# Altium footprint library wulpus_hv.PcbLib: 27 footprints (part 1 of 2)
Each footprint in its own frame and in the unit in brackets; x right, y up, seen from the top. Pads: shape width x height; smd on the part's side, far side on the other; paste and mask are expansions set on the pad; w line width, h text height; cw(c..) or ccw(c..) is an arc to the next point about the centre after c.
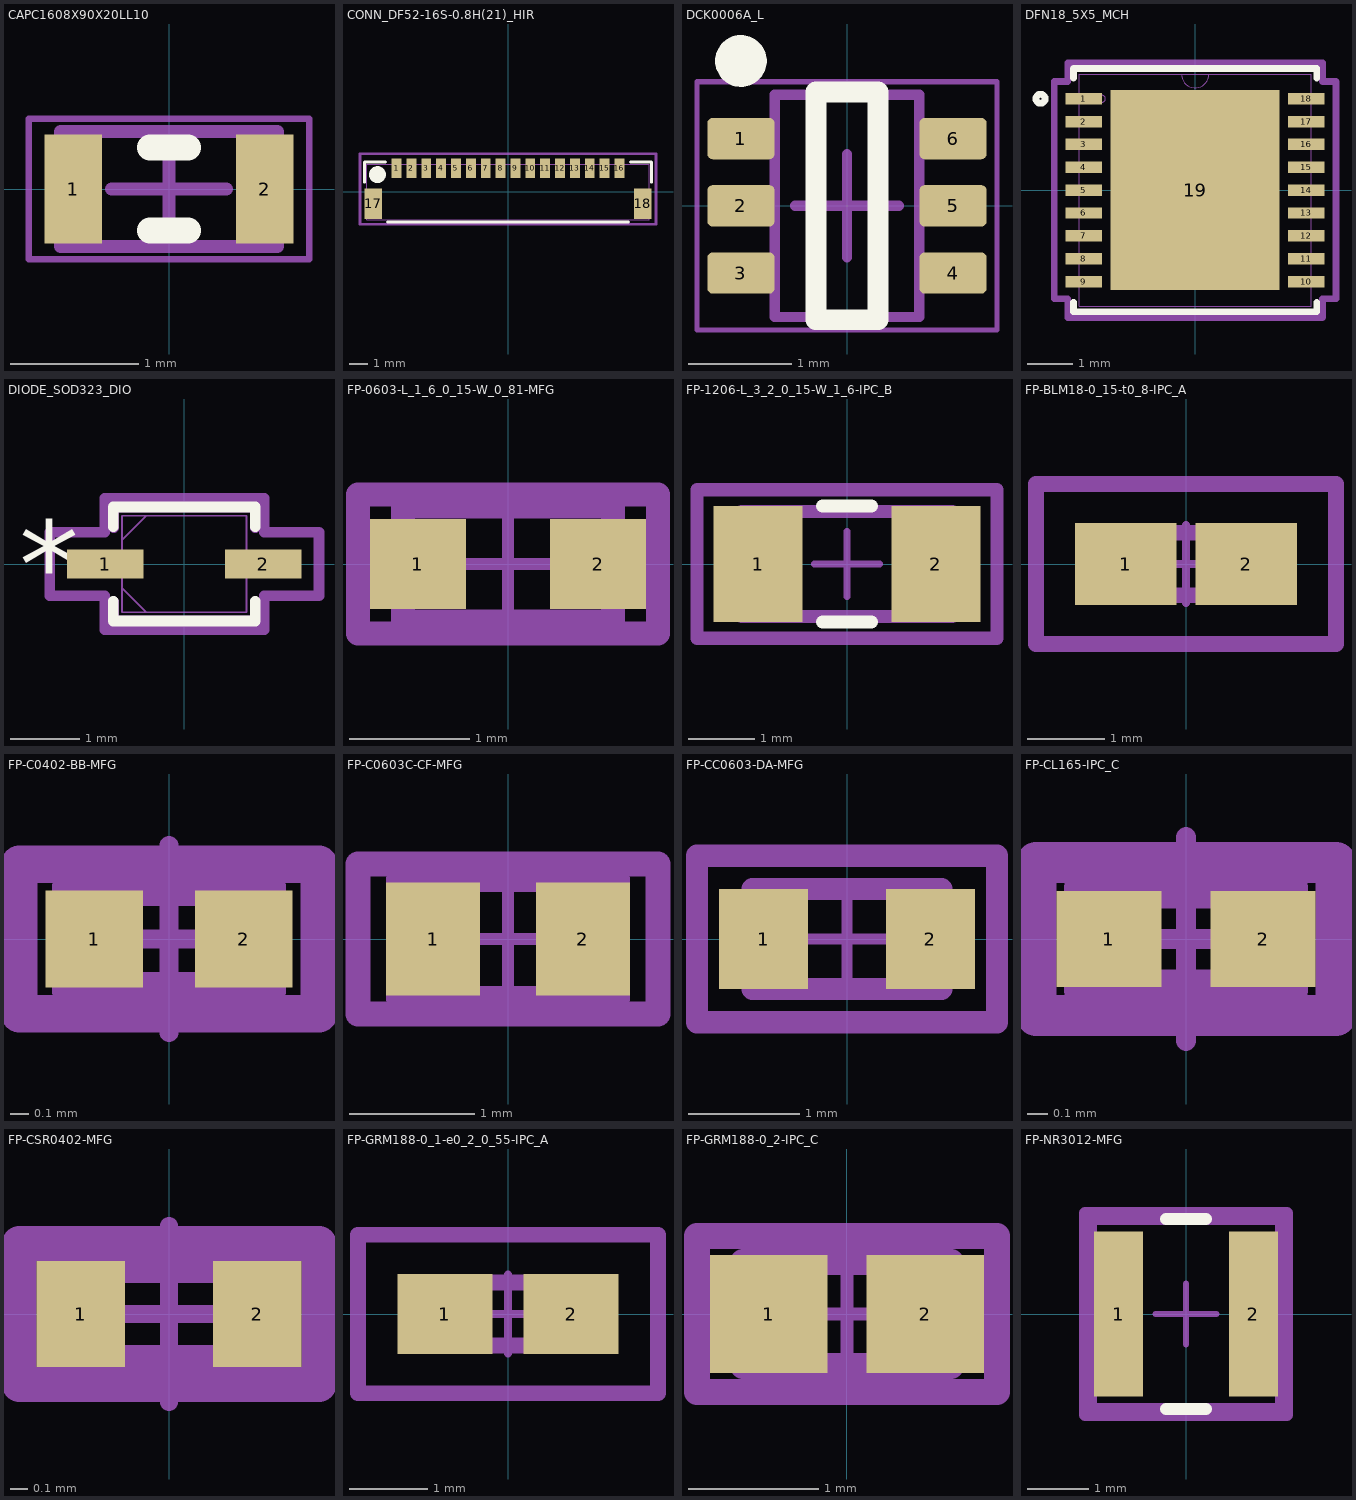
[diagram p0: the footprints below, top view; thin cyan lines are the x and y axes]

## CAPC1608X90X20LL10 [mm]
pads (2):
  rect 0.45x0.85 smd: 1(-0.75,0) 2(0.75,0)
Top Overlay:
  lines w0.2: -0.15,-0.325 0.15,-0.325 ; -0.15,0.325 0.15,0.325
Top 3D Body:
  lines w0.1: -0.85,-0.45 0.85,-0.45 0.85,0.45 -0.85,0.45 -0.85,-0.45
Top Courtyard:
  lines w0.05: -1.1,-0.55 1.1,-0.55 1.1,0.55 -1.1,0.55 -1.1,-0.55
  lines w0.1: -0.45,0 0.45,0 ; 0,-0.45 0,0.45
3D body: height 0.9, standoff 0, extent 0.65,-0.45 0.85,0.45
3D body: height 0.9, standoff 0, extent -0.85,-0.45 -0.65,0.45
3D body: height 0.9, standoff 0, extent -0.65,-0.45 0.65,0.45

## CONN_DF52-16S-0.8H(21)_HIR [mil]
pads (18):
  rect 21x41 smd paste+0 mask+0: 1(-236.22,50.63) 2(-204.72,50.63) 3(-173.23,50.63) 4(-141.73,50.63) 5(-110.24,50.63) 6(-78.74,50.63) 7(-47.24,50.63) 8(-15.75,50.63) 9(15.75,50.63) 10(47.24,50.63) 11(78.74,50.63) 12(110.24,50.63) 13(141.73,50.63) 14(173.23,50.63) 15(204.72,50.63) 16(236.22,50.63)
  rect 37x65 smd: 17(-285.43,-24.96) 18(285.43,-24.96)
Top Overlay:
  circle w20: c-276.57,36.85 r7.87
  lines w6: -304,20.64 -304,63.5 -259.82,63.5 ; -255.31,-63.5 255.31,-63.5 ; 259.82,63.5 304,63.5 304,20.64
Top 3D Body:
  lines w1: -299,-58.5 299,-58.5 299,58.5 -299,58.5 -299,-58.5
Top Courtyard:
  lines w6: -313.93,-68.5 -313.93,81.13 313.93,81.13 313.93,-68.5 -313.93,-68.5
3D body "DF52-16S-0.8H-21---3DModel-STEP-1.STEP": height 69.4, standoff 0.5, extent -295.28,-55.12 295.28,53.94
3D body: height 10, standoff 0, extent 0,0 10,10

## DCK0006A_L [mm]
pads (6):
  rrect25% 0.65x0.4 smd: 1(-1.025,0.65) 2(-1.025,0) 3(-1.025,-0.65) 4(1.025,-0.65) 5(1.025,0) 6(1.025,0.65)
Top Overlay:
  circle w0.25: c-1.025,1.4 r0.125
  lines w0.2: -0.3,-1.1 -0.3,1.1 0.3,1.1 0.3,-1.1 -0.3,-1.1
Mechanical 1:
  text ".Designator" at -0.635,-0.127 h0.3
Top 3D Body:
  lines w0.1: -0.7,-1.075 0.7,-1.075 0.7,1.075 -0.7,1.075 -0.7,-1.075
Top Courtyard:
  lines w0.05: -1.45,-1.2 1.45,-1.2 1.45,1.2 -1.45,1.2 -1.45,-1.2
  lines w0.1: -0.5,0 0.5,0 ; 0,-0.5 0,0.5
3D body "DCK0006AakaMAA06.stp": height 0.94, standoff -0.01, extent -1.14,-1 1.14,1

## DFN18_5X5_MCH [mil]
pads (19):
  rect 31.81x10.03 smd paste+0 mask+0: 1(-97.41,80) 2(-97.41,60) 3(-97.41,40) 4(-97.41,20) 5(-97.41,0) 6(-97.41,-20) 7(-97.41,-40) 8(-97.41,-60) 9(-97.41,-80) 10(97.41,-80) 11(97.41,-60) 12(97.41,-40) 13(97.41,-20) 14(97.41,0) 15(97.41,20) 16(97.41,40) 17(97.41,60) 18(97.41,80)
  rect 148x175 smd paste+0 mask+0: 19(0,0)
Top Overlay:
  circle w6: c-135.31,80 r4
  lines w6: -106.5,-98.12 -106.5,-106.5 106.5,-106.5 106.5,-98.12 ; -106.5,98.12 -106.5,106.5 106.5,106.5 106.5,98.12
Top Paste:
  region: -3.94,83.56 -70.06,83.56 -70.06,33.1 -3.94,33.1
  region: -3.94,25.23 -70.06,25.23 -70.06,-25.23 -3.94,-25.23
  region: -3.94,-33.1 -70.06,-33.1 -70.06,-83.56 -3.94,-83.56
  region: 70.06,83.56 3.94,83.56 3.94,33.1 70.06,33.1
  region: 70.06,25.23 3.94,25.23 3.94,-25.23 70.06,-25.23
  region: 70.06,-33.1 3.94,-33.1 3.94,-83.56 70.06,-83.56
Top 3D Body:
  circle w0: c-81.5,80 r3
  lines w0: -12,101.5 ccw(c0,101.5) 12,101.5
  lines w1: -101.5,-101.5 101.5,-101.5 101.5,101.5 -101.5,101.5 -101.5,-101.5
Top Courtyard:
  lines w6: -123.31,-95.02 -123.31,95.02 -111.5,95.02 -111.5,111.5 111.5,111.5 111.5,95.02 123.31,95.02 123.31,-95.02 111.5,-95.02 111.5,-111.5 -111.5,-111.5 -111.5,-95.02 -123.31,-95.02
3D body "DFN18_5X5_MCH.step": height 39.09, standoff 0, extent -101.5,-101.5 101.5,101.5

## DIODE_SOD323_DIO [mil]
pads (2):
  rect 43.56x16.36 smd paste+0 mask+0: 1(-45,0) 2(45,0)
Top Overlay:
  lines w6: -40.5,-21.28 -40.5,-32.5 40.5,-32.5 40.5,-21.28 ; -40.5,21.28 -40.5,32.5 40.5,32.5 40.5,21.28
  text "*" at -94.28,-25 h50
Top Assembly:
  lines w5.98: -40.35,-21.65 -40.35,-32.48 40.35,-32.48 40.35,-21.65 ; -40.35,20.67 -40.35,32.48 40.35,32.48 40.35,20.67
  text ".Designator" at -54.13,-28.53 h39.37
  text "BD" at 19.68,11.81 h23.62
Top 3D Body:
  lines w1: -35.5,-13.75 -21.75,-27.5 ; -35.5,13.75 -21.75,27.5 ; -53,-7 -35.5,-7 -35.5,7 -53,7 -53,-7 ; -35.5,-27.5 -35.5,27.5 35.5,27.5 35.5,-27.5 -35.5,-27.5 ; 35.5,-7 53,-7 53,7 35.5,7 35.5,-7
  text "*" at -38,-25 h50
Top Courtyard:
  lines w6: -76.78,-18.18 -45.5,-18.18 -45.5,-37.5 45.5,-37.5 45.5,-18.18 76.78,-18.18 76.78,18.18 45.5,18.18 45.5,37.5 -45.5,37.5 -45.5,18.18 -76.78,18.18 -76.78,-18.18
3D body "DIODE_SOD323_DIO.step": height 47.09, standoff 0, extent -52.99,-27.48 52.99,27.48

## FP-0603-L_1_6_0_15-W_0_81-MFG [mm]
pads (2):
  rect 0.8x0.75 smd paste+0 mask+0: 1(-0.75,0) 2(0.75,0)
Top Overlay:
  text ".Designator" at 1.3,-0.187 h1
Top Assembly:
  lines w0.2: -1.25,-0.58 -1.25,0.58 1.25,0.58 1.25,-0.58 -1.25,-0.58
Top 3D Body:
  lines w0.2: -0.875,-0.48 -0.875,0.48 0.875,0.48 0.875,-0.48 -0.875,-0.48
Top Courtyard:
  lines w0.2: -1.25,-0.58 -1.25,0.58 1.25,0.58 1.25,-0.58 -1.25,-0.58
Top Component Center:
  lines w0.1: -0.5,0 0.5,0 ; 0,-0.5 0,0.5
3D body "Cap_AVX_06036C105JAT2A_eec.STEP": height 0.94, standoff 0, extent -0.8,-0.405 0.8,0.405

## FP-1206-L_3_2_0_15-W_1_6-IPC_B [mm]
pads (2):
  rect 1.355x1.758 smd paste+0 mask+0: 1(-1.351,0) 2(1.351,0)
Top Overlay:
  lines w0.2: -0.374,-0.879 0.374,-0.879 ; -0.374,0.879 0.374,0.879
  text ".Designator" at 2.7,-1.488 h1
Top Assembly:
  lines w0.2: -2.279,-1.129 -2.279,1.129 2.279,1.129 2.279,-1.129 -2.279,-1.129
Top 3D Body:
  lines w0.2: -1.6,-0.8 -1.6,0.8 1.6,0.8 1.6,-0.8 -1.6,-0.8
Top Courtyard:
  lines w0.2: -2.279,-1.129 -2.279,1.129 2.279,1.129 2.279,-1.129 -2.279,-1.129
Top Component Center:
  lines w0.1: -0.5,0 0.5,0 ; 0,-0.5 0,0.5
3D body "Cap_Taiyo_Yuden_TMF316B7104KLHT_eec.STEP": height 1.8, standoff 0, extent -1.6,-0.8 1.6,0.8

## FP-BLM18-0_15-t0_8-IPC_A [mm]
pads (2):
  rect 1.306x1.058 smd paste+0 mask+0: 1(-0.776,0) 2(0.776,0)
Top Overlay:
  text ".Designator" at 2.9,0.137 h1
Top Assembly:
  lines w0.2: -1.929,-1.029 -1.929,1.029 1.929,1.029 1.929,-1.029 -1.929,-1.029
Top 3D Body:
  lines w0.2: -0.8,-0.4 -0.8,0.4 0.8,0.4 0.8,-0.4 -0.8,-0.4
Top Courtyard:
  lines w0.2: -1.929,-1.029 -1.929,1.029 1.929,1.029 1.929,-1.029 -1.929,-1.029
Top Component Center:
  lines w0.1: -0.5,0 0.5,0 ; 0,-0.5 0,0.5
3D body "FBead_Murata_BLM18EG221SN1D_eec.STEP": height 0.95, standoff 0, extent -0.8,-0.4 0.8,0.4

## FP-C0402-BB-MFG [mm]
pads (2):
  rect 0.52x0.52 smd paste+0 mask+0: 1(-0.4,0) 2(0.4,0)
Top Overlay:
  text ".Designator" at 0.775,-0.137 h1
Top Assembly:
  lines w0.2: -0.8,-0.4 -0.8,0.4 0.8,0.4 0.8,-0.4 -0.8,-0.4
Top 3D Body:
  lines w0.2: -0.525,-0.275 -0.525,0.275 0.525,0.275 0.525,-0.275 -0.525,-0.275
Top Courtyard:
  lines w0.2: -0.8,-0.4 -0.8,0.4 0.8,0.4 0.8,-0.4 -0.8,-0.4
Top Component Center:
  lines w0.1: -0.5,0 0.5,0 ; 0,-0.5 0,0.5
3D body "Cap_Kemet_C0402C562J5RACTU_eec.STEP": height 0.55, standoff 0, extent -0.5,-0.25 0.5,0.25

## FP-C0603C-CF-MFG [mm]
pads (2):
  rect 0.75x0.9 smd paste+0 mask+0: 1(-0.6,0) 2(0.6,0)
Top Overlay:
  text ".Designator" at -1.175,0.212 h1
Top Assembly:
  lines w0.2: -1.2,-0.6 -1.2,0.6 1.2,0.6 1.2,-0.6 -1.2,-0.6
Top 3D Body:
  lines w0.2: -0.875,-0.475 -0.875,0.475 0.875,0.475 0.875,-0.475 -0.875,-0.475
Top Courtyard:
  lines w0.2: -1.2,-0.6 -1.2,0.6 1.2,0.6 1.2,-0.6 -1.2,-0.6
Top Component Center:
  lines w0.1: -0.5,0 0.5,0 ; 0,-0.5 0,0.5
3D body "Cap_KEMET_C0603C272M5JACTU_eec.STEP": height 0.87, standoff 0, extent -0.8,-0.4 0.8,0.4

## FP-CC0603-DA-MFG [mm]
pads (2):
  rect 0.8x0.9 smd paste+0 mask+0: 1(-0.75,0) 2(0.75,0)
Top Overlay:
  text ".Designator" at 1.9,-0.125 h0.8
Top Assembly:
  lines w0.2: -1.35,-0.75 1.35,-0.75 1.35,0.75 -1.35,0.75 -1.35,-0.75
Top 3D Body:
  lines w0.2: -0.85,-0.45 0.85,-0.45 0.85,0.45 -0.85,0.45 -0.85,-0.45
Top Courtyard:
  lines w0.2: -1.35,-0.75 1.35,-0.75 1.35,0.75 -1.35,0.75 -1.35,-0.75
Top Component Center:
  lines w0.1: -0.5,0 0.5,0 ; 0,-0.5 0,0.5
3D body "Cap_YAGEO_CC0603KRX7R9BB271_eec.STEP": height 0.9, standoff 0, extent -0.8,-0.4 0.8,0.4

## FP-CL165-IPC_C [mm]
pads (2):
  rect 0.515x0.472 smd paste+0 mask+0: 1(-0.379,0) 2(0.379,0)
Top Assembly:
  lines w0.2: -0.736,-0.375 0.736,-0.375 0.736,0.375 -0.736,0.375 -0.736,-0.375
  text ".Designator" at 0,-0.001 h1
Top 3D Body:
  lines w0.2: -0.5,-0.25 0.5,-0.25 0.5,0.25 -0.5,0.25 -0.5,-0.25
Top Courtyard:
  lines w0.2: -0.736,-0.375 0.736,-0.375 0.736,0.375 -0.736,0.375 -0.736,-0.375
Top Component Center:
  lines w0.1: -0.5,0 0.5,0 -0.5,0 ; 0,-0.5 0,0.5 0,-0.5
3D body "Cap_Samsung_CL05B103KB5NNNC_eec.STEP": height 0.25, standoff 0, extent -0.736,-0.375 0.736,0.375

## FP-CSR0402-MFG [mm]
pads (2):
  rect 0.5x0.6 smd paste+0 mask+0: 1(-0.5,0) 2(0.5,0)
Top Assembly:
  lines w0.2: -0.85,-0.4 0.85,-0.4 0.85,0.4 -0.85,0.4 -0.85,-0.4
  text ".Designator" at -0.4,-0.037 h1
Top 3D Body:
  lines w0.2: -0.525,-0.275 0.525,-0.275 0.525,0.275 -0.525,0.275 -0.525,-0.275
Top Courtyard:
  lines w0.2: -0.85,-0.4 0.85,-0.4 0.85,0.4 -0.85,0.4 -0.85,-0.4
Top Component Center:
  lines w0.1: -0.5,0 0.5,0 ; 0,-0.5 0,0.5
3D body "Res_Stackpole_Electronics_CSR0402FK1R00_eec.STEP": height 0.25, standoff 0, extent -0.85,-0.4 0.85,0.4

## FP-GRM188-0_1-e0_2_0_55-IPC_A [mm]
pads (2):
  rect 1.208x1.012 smd paste+0 mask+0: 1(-0.802,0) 2(0.802,0)
Top Overlay:
  text ".Designator" at -0.452,0.813 h1
Top Assembly:
  lines w0.2: -1.906,-1.006 -1.906,1.006 1.906,1.006 1.906,-1.006 -1.906,-1.006
Top 3D Body:
  lines w0.2: -0.8,-0.4 -0.8,0.4 0.8,0.4 0.8,-0.4 -0.8,-0.4
Top Courtyard:
  lines w0.2: -1.906,-1.006 -1.906,1.006 1.906,1.006 1.906,-1.006 -1.906,-1.006
Top Component Center:
  lines w0.1: -0.5,0 0.5,0 ; 0,-0.5 0,0.5
3D body "Cap_Murata_GRM188R60J106KE47D_eec.STEP": height 0.9, standoff 0, extent -0.8,-0.4 0.8,0.4

## FP-GRM188-0_2-IPC_C [mm]
pads (2):
  rect 0.905x0.906 smd paste+0 mask+0: 1(-0.601,0) 2(0.601,0)
Top Overlay:
  text ".Designator" at -1.925,0 h0.8
Top Assembly:
  lines w0.2: -1.153,-0.6 -1.153,0.6 1.153,0.6 1.153,-0.6 -1.153,-0.6
Top 3D Body:
  lines w0.2: -0.8,-0.4 -0.8,0.4 0.8,0.4 0.8,-0.4 -0.8,-0.4
Top Courtyard:
  lines w0.2: -1.153,-0.6 -1.153,0.6 1.153,0.6 1.153,-0.6 -1.153,-0.6
Top Component Center:
  lines w0.1: -0.5,0 0.5,0 ; 0,-0.5 0,0.5
3D body "Cap_Murata_GRM188C71C225KE11D_eec.STEP": height 1, standoff 0, extent -0.8,-0.4 0.8,0.4

## FP-NR3012-MFG [mm]
pads (2):
  rect 0.8x2.7 smd paste+0 mask+0: 1(-1.1,0) 2(1.1,0)
Top Overlay:
  lines w0.2: -0.325,-1.55 0.325,-1.55 ; -0.325,1.55 0.325,1.55
  text ".Designator" at 2.725,0.087 h1
Top Assembly:
  lines w0.2: -1.65,-1.65 -1.65,1.65 1.65,1.65 1.65,-1.65 -1.65,-1.65
Top 3D Body:
  lines w0.2: -1.55,-1.55 -1.55,1.55 1.55,1.55 1.55,-1.55 -1.55,-1.55
Top Courtyard:
  lines w0.2: -1.65,-1.65 -1.65,1.65 1.65,1.65 1.65,-1.65 -1.65,-1.65
Top Component Center:
  lines w0.1: -0.5,0 0.5,0 ; 0,-0.5 0,0.5
3D body "Ind_Taiyo_Yuden_NR3012T1R0N_eec.STEP": height 1.2, standoff 0, extent -1.5,-1.5 1.5,1.5